# Altium footprint library PCB - DIODES - DIOM5436X244N.PCBLIB: 1 footprints
Each footprint in its own frame and in the unit in brackets; x right, y up, seen from the top. Pads: shape width x height; smd on the part's side, far side on the other; paste and mask are expansions set on the pad; w line width, h text height; cw(c..) or ccw(c..) is an arc to the next point about the centre after c.
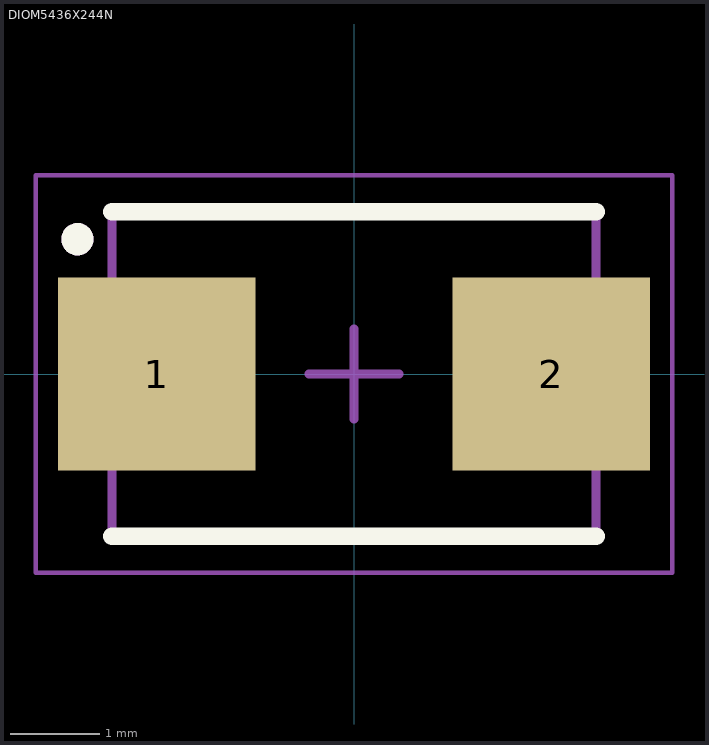
[diagram p0: the footprint, top view; thin cyan lines are the x and y axes]

## DIOM5436X244N [mm]
pads (2):
  rect 2.2x2.15 smd: 1(-2.2,0) 2(2.2,0)
Top Overlay:
  circle w0.2: c-3.085,1.504 r0.08
  lines w0.2: -2.7,-1.81 2.7,-1.81 ; -2.7,1.81 2.7,1.81
Top Assembly:
  circle w0.2: c-3.085,1.504 r0.08
  lines w0.1: -2.7,-1.81 2.7,-1.81 2.7,1.81 -2.7,1.81 -2.7,-1.81
Top Courtyard:
  lines w0.05: -3.55,-2.22 3.55,-2.22 3.55,2.22 -3.55,2.22 -3.55,-2.22
Top Designator (Mech9):
  text ".Designator" at -2.251,-0.226 h1
Top Component Center:
  lines w0.1: -0.5,0 0.5,0 ; 0,-0.5 0,0.5
3D body "SMBJ30A-E3_52.stp": height 2.44, standoff 0, extent -2.7,-1.81 2.7,1.81